# Altium schematic symbol library C1206C104J5RAC.SchLib: 1 symbol
Pins are listed as number, name and electrical type; pins without a type are passive.

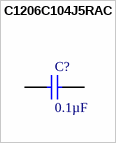
[diagram p0: symbol C1206C104J5RAC]

## C1206C104J5RAC
designator C?, comment 0.1µF
0.1µF Â± 5% 50V Condensador cerÃ¡mico X7R 1206 _3216 MÃ©trico_; MP: C1206C104J5RACTU; MF: KEMET; Availability: Unavailable; Package: 3216 KEMET; DigiKey-Purchase-URL: *; SnapEDA_Link: *; Value: *; Price: None
footprint CAPC3216X88N
pins: 1, 2